# EAGLE library part 6C/F8-T-T (library radiotubes)
Octal twin triode 6C8G / 6F8G
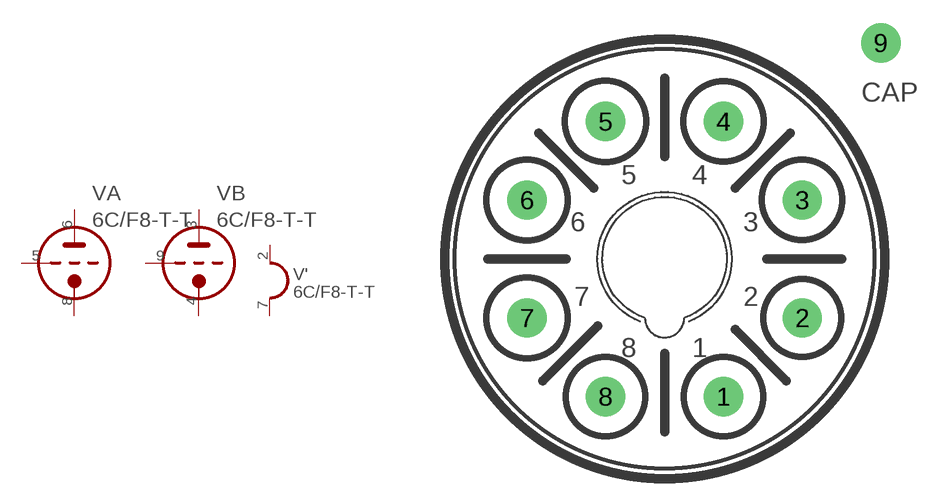
[diagram p150: symbol with the pads of OCTAL-C; footprint OCTAL-C]

Designator prefix V; gates A=TRIODE B=TRIODE '=HEATER_1

## 6C/F8-T-T  [OCTAL-C]
2  ':H1  pas
3  B:A  pas
4  B:K  pas
5  A:G  pas
6  A:A  pas
7  ':H2  pas
8  A:K  pas
9  B:G  pas

## Footprint OCTAL-C (pad centres in mm)
drill 1.27 pad 2.54: 1 3.81,-8.89; 2 8.89,-3.81; 3 8.89,3.81; 4 3.81,8.89; 5 -3.81,8.89; 6 -8.89,3.81; 7 -8.89,-3.81; 8 -3.81,-8.89; 9 13.97,13.97